# EAGLE library part 1X14_STM (library _zlacza)
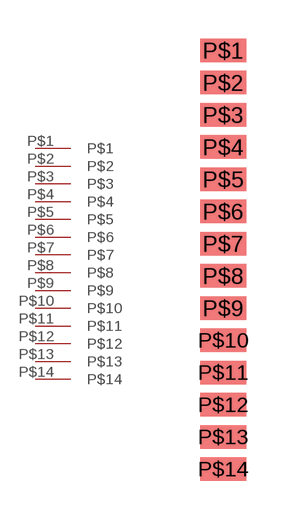
[diagram p1: symbol with the pads of 1X14_STM; footprint 1X14_STM]

Designator prefix -

## 1X14_STM  [1X14_STM]
P$1  P$1
P$2  P$2
P$3  P$3
P$4  P$4
P$5  P$5
P$6  P$6
P$7  P$7
P$8  P$8
P$9  P$9
P$10  P$10
P$11  P$11
P$12  P$12
P$13  P$13
P$14  P$14

## Footprint 1X14_STM (pad centres in mm)
smd 1.778 x 0.914: P$1 -2,1; P$2 -2,-0.25; P$3 -2,-1.5; P$4 -2,-2.75; P$5 -2,-4; P$6 -2,-5.25; P$7 -2,-6.5; P$8 -2,-7.75; P$9 -2,-9; P$10 -2,-10.25; P$11 -2,-11.5; P$12 -2,-12.75; P$13 -2,-14; P$14 -2,-15.25